# Altium footprint library 21-Pcblib_MosDriver.PcbLib: 4 footprints
Each footprint in its own frame and in the unit in brackets; x right, y up, seen from the top. Pads: shape width x height; smd on the part's side, far side on the other; paste and mask are expansions set on the pad; w line width, h text height; cw(c..) or ccw(c..) is an arc to the next point about the centre after c.
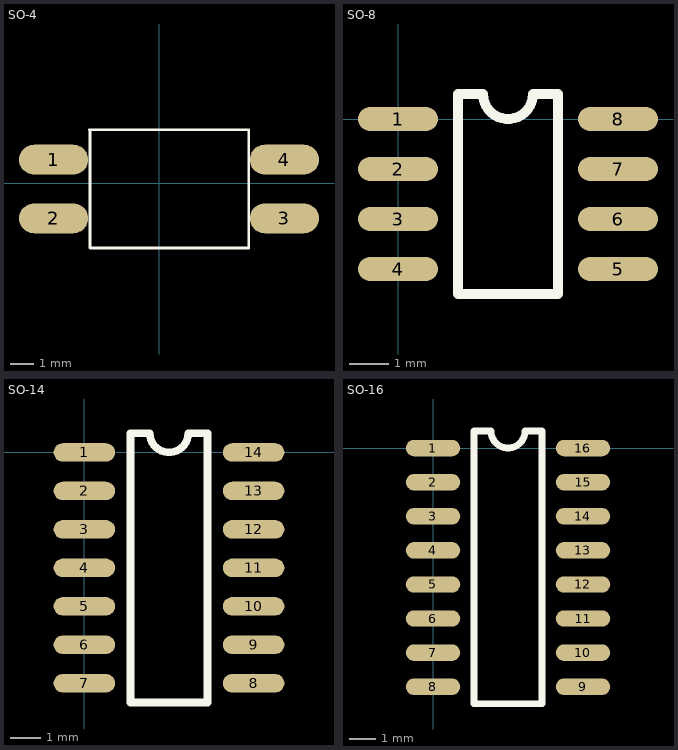
[diagram p0: the footprints below, top view; thin cyan lines are the x and y axes]

## SO-4 [mm]
pads (4):
  oval 3x1.3 smd: 1(-4.572,1.016) 2(-4.572,-1.524) 3(5.428,-1.524) 4(5.428,1.016)
Top Overlay:
  lines w0.12: -3.024,2.317 3.887,2.317 3.887,-2.816 -2.993,-2.816 -2.993,2.286

## SO-8 [mil]
pads (8):
  oval 80x24 smd: 1(-0.28,0) 2(-0.28,-50) 3(-0.28,-100) 4(-0.28,-150) 5(219.72,-150) 6(219.72,-100) 7(219.72,-50) 8(219.72,0)
Top Overlay:
  lines w10: 59.72,-175 159.72,-175 159.72,25 134.72,25 cw(c109.72,25) 84.72,25 59.72,25 59.72,-175
3D body: height 66.93, standoff 0, extent -8.11,-171.45 228.11,21.46

## SO-14 [mil]
pads (14):
  oval 80x24 smd: 1(0,0) 2(0,-50) 3(0,-100) 4(0,-150) 5(0,-200) 6(0,-250) 7(0,-300) 8(220,-300) 9(220,-250) 10(220,-200) 11(220,-150) 12(220,-100) 13(220,-50) 14(220,0)
Top Overlay:
  lines w10: 60,-325 160,-325 160,25 135,25 cw(c110,25) 85,25 60,25 60,-325
3D body: height 63.39, standoff 0, extent -11.04,-321.26 233.05,21.26

## SO-16 [mil]
pads (16):
  oval 80x24 smd: 1(-0.28,0) 2(-0.28,-50) 3(-0.28,-100) 4(-0.28,-150) 5(-0.28,-200) 6(-0.28,-250) 7(-0.28,-300) 8(-0.28,-350) 9(219.72,-350) 10(219.72,-300) 11(219.72,-250) 12(219.72,-200) 13(219.72,-150) 14(219.72,-100) 15(219.72,-50) 16(219.72,0)
Top Overlay:
  lines w10: 59.72,-375 159.72,-375 159.72,25 134.72,25 cw(c109.72,25) 84.72,25 59.72,25 59.72,-375
3D body: height 72.05, standoff 0, extent -6,-370.85 230.22,22.85